# Altium footprint library 243-436-MikoBus-DrvMot.PcbLib: 4 footprints
Each footprint in its own frame and in the unit in brackets; x right, y up, seen from the top. Pads: shape width x height; smd on the part's side, far side on the other; paste and mask are expansions set on the pad; w line width, h text height; cw(c..) or ccw(c..) is an arc to the next point about the centre after c.
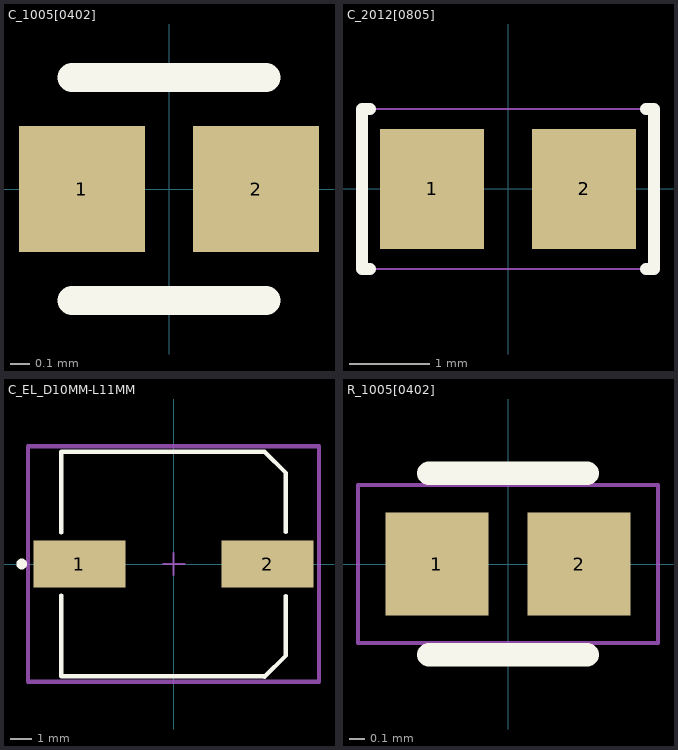
[diagram p0: the footprints below, top view; thin cyan lines are the x and y axes]

## C_1005[0402] [mm] "Capacitor MLCC; Body 1.1 x 0.5 mm (LxW typ)"
height 0.5
pads (2):
  rect 0.65x0.65 smd mask+0.075: 1(-0.45,0) 2(0.45,0)
Top Overlay:
  lines w0.15: -0.5,-0.575 0.5,-0.575 ; -0.5,0.575 0.5,0.575
Top Designator:
  text ".Designator" at -0.855,-0.226 h1
3D body "User Library-0402(1005M) Cap.STEP": height 0.51, standoff 0, extent -0.508,-0.254 0.508,0.254

## C_2012[0805] [mm] "Capacitor MLCC; Body 2.0 x 1.3 mm (LxW typ)"
height 0.8
pads (2):
  rect 1.3x1.5 smd: 1(-0.95,0) 2(0.95,0)
Top Overlay:
  lines w0.15: -1.725,-1 -1.825,-1 -1.825,1 -1.725,1 ; 1.725,-1 1.825,-1 1.825,1 1.725,1
Top Courtyard:
  lines w0.025: -1.875,-1 1.875,-1 1.875,1 -1.875,1 -1.875,-1
Top Designator:
  text ".Designator" at -2.475,-0.206 h1.5
3D body "SW3dPS-0805 SMD Capacitor.STEP": height 0.78, standoff 0, extent -1,-0.625 1,0.625

## C_EL_D10MM-L11MM [mm] "SMD, D10xL10.5mm"
height 11
pads (2):
  rect 4.3x2.2 smd paste+0 mask+0: 1(-4.4,0) 2(4.4,0)
Top Overlay:
  circle w0.25: c-7.1,0 r0.125
  lines w0.2: -5.25,-1.475 -5.25,-5.25 4.25,-5.25 ; -5.25,1.475 -5.25,5.25 4.25,5.25 5.25,4.25 5.25,1.5 ; 4.25,-5.275 5.25,-4.275 ; 5.25,-4.25 5.25,-1.5
Top Component Center:
  lines w0.1: -0.5,0 0.5,0 ; 0,-0.5 0,0.5
Top Courtyard:
  lines w0.2: -6.8,-5.5 -6.8,5.5 6.8,5.5 6.8,-5.5 -6.8,-5.5
Top Designator:
  text ".Designator" at 0,0.188 h1
3D body "Cap_Rubycon_35TGV100M10X10_5_eec.STEP": height 0.25, standoff 0, extent -6.8,-5.5 6.8,5.5

## R_1005[0402] [mm] "Chip Resistor; Body 1.1 x 0.5 mm (LxW typ)"
height 0.4
pads (2):
  rect 0.65x0.65 smd mask+0.075: 1(-0.45,0) 2(0.45,0)
Top Overlay:
  lines w0.15: -0.5,-0.575 0.5,-0.575 ; -0.5,0.575 0.5,0.575
Top Courtyard:
  lines w0.025: -0.95,-0.5 -0.95,0.5 -0.925,0.5 0.95,0.5 0.95,-0.5 -0.95,-0.5
Top Designator:
  text ".Designator" at -2.489,-0.212 h1.5
3D body "User Library-R0402-1.STEP": height 0.36, standoff 0, extent -0.495,-0.25 0.495,0.258